# Altium schematic symbol library 4.3inch 480x272 Touch LCD [A].Schlib: 1 symbol
Pins are listed as number, name and electrical type; pins without a type are passive.

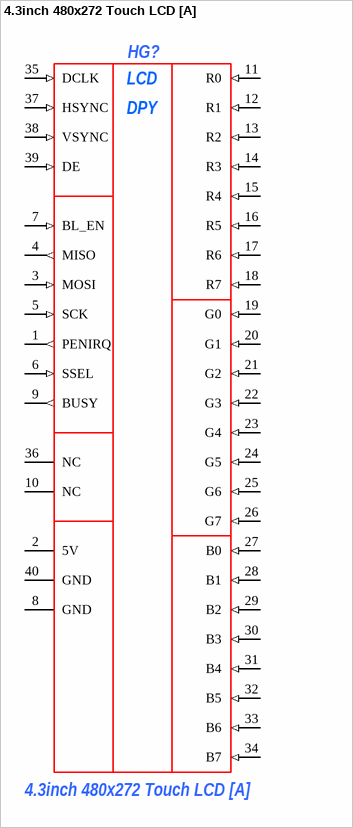
[diagram p0: symbol 4.3inch 480x272 Touch LCD [A]]

## 4.3inch 480x272 Touch LCD [A]
designator HG?
ComponentLink1Description: *; ComponentLink1URL: *; ComponentLink2Description: *; ComponentLink2URL: *; ManufacturerPartNumber: 4.3inch 480x272 Touch LCD [A]; Power/Voltage: *; Rem: *; TKE: *; Tolerance: *; TU/GOST: *; Value: *; Корпус: *; Примечание: *; Manufacturer: *; Author: *; Type: *
footprint 4.3inch 480x272 Touch LCD [A]
pins: 1 PENIRQ (out), 2 5V (power), 3 MOSI (in), 4 MISO (out), 5 SCK (in), 6 SSEL (in), 7 BL_EN (in), 8 GND (power), 9 BUSY (out), 10 NC, 11 R0 (in), 12 R1 (in), 13 R2 (in), 14 R3 (in), 15 R4 (in), 16 R5 (in), 17 R6 (in), 18 R7 (in), 19 G0 (in), 20 G1 (in), 21 G2 (in), 22 G3 (in), 23 G4 (in), 24 G5 (in), 25 G6 (in), 26 G7 (in), 27 B0 (in), 28 B1 (in), 29 B2 (in), 30 B3 (in), 31 B4 (in), 32 B5 (in), 33 B6 (in), 34 B7 (in), 35 DCLK (in), 36 NC, 37 HSYNC (in), 38 VSYNC (in), 39 DE (in), 40 GND (power)
text: LCD; DPY